# Altium schematic symbol library Thermistors-0402.SchLib: 2 symbols
Pins are listed as number, name and electrical type; pins without a type are passive.

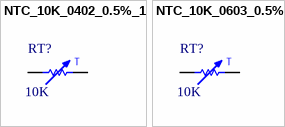
[diagram p0: symbols NTC_10K_0402_0.5%_1 to NTC_10K_0603_0.5%]

## NTC_10K_0402_0.5%_1
designator RT?, comment value 10K  (hidden comment: 10K 0.5% 0402)
NTC 10K 0.5% 0402 (1005 Metric); PartNumber: NCP15XH103D03RC; Manufacturer: Murata; Power: 0.1W; Mounting Technology: Surface Mount; PackageReference: 0402; PackageDescription: 0402 (1005 Metric); Tolerance: 0.5%
footprint R0402[1005] (Chip Resistor, Body 1.0x0.5mm)
pins: 1, 2
text: T

## NTC_10K_0603_0.5%
designator RT?, comment value 10K  (hidden comment: 10K 0.5% 0603)
NTC 10K 0.5% 0603 (1608 Metric); PartNumber: NCP18XH103D60RC; Manufacturer: Murata; Power: 0.1W; Mounting Technology: Surface Mount; PackageReference: 0603; PackageDescription: 0603 (1608 Metric); Tolerance: 0.5%
footprint R0603[1608] (Chip Resistor, Body 1.55x0.85mm)
pins: 1, 2
text: T